# EAGLE library part NUCLEO-L452RE (library NUCLEO-L452RE)
No existe un outline (Layer Dimension) para esta librería. En su lugar se utilizó una referencia en tDocu. Al momento de diseñar la tarjeta, el Dimension debe ser dibujado según los requerimientos del usuario, o simplemente copiar los contenidos del tDocu en Dimensions.
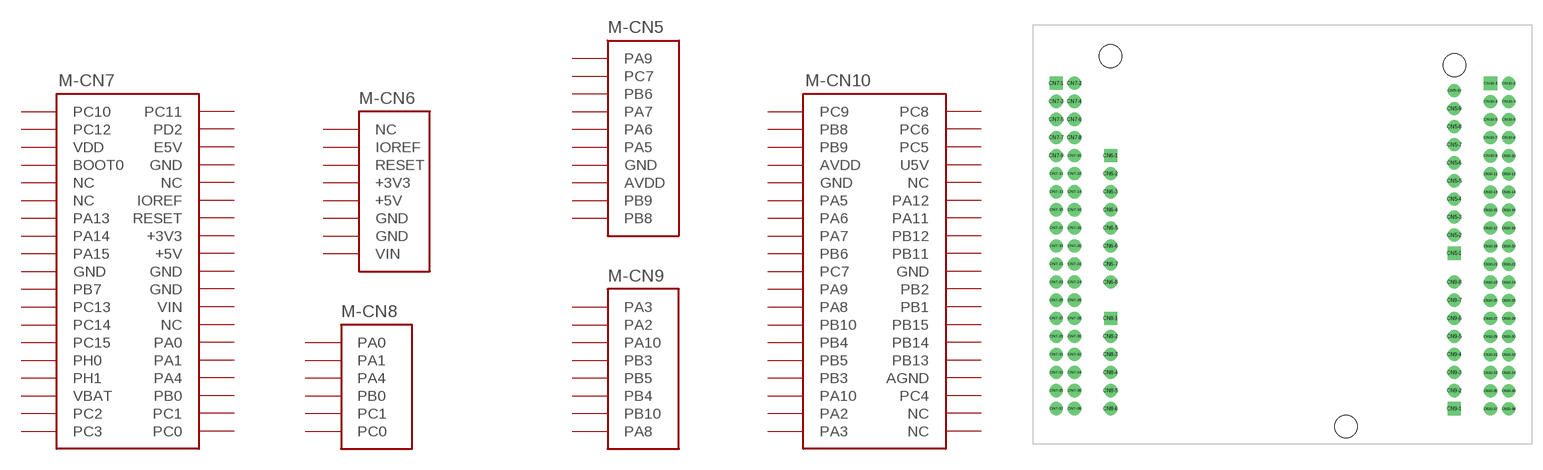
[diagram p0: symbol with the pads of NUCLEO-64; footprint NUCLEO-64]

Designator prefix M; gates -CN7=CN7 -CN6=CN6 -CN8=CN8 -CN9=CN9 -CN5=CN5 -CN10=CN10

## NUCLEO-L452RE (PARTNO: ESP-WROOM-32)  [NUCLEO-64]
CN5-1  -CN5:PA9
CN5-2  -CN5:PC7
CN5-3  -CN5:PB6
CN5-4  -CN5:PA7
CN5-5  -CN5:PA6
CN5-6  -CN5:PA5
CN5-7  -CN5:GND  pwr
CN5-8  -CN5:AVDD  pwr
CN5-9  -CN5:PB9
CN5-10  -CN5:PB8
CN6-1  -CN6:NC  nc
CN6-2  -CN6:IOREF  pwr
CN6-3  -CN6:RESET  in
CN6-4  -CN6:+3V3  pwr
CN6-5  -CN6:+5V  pwr
CN6-6  -CN6:GND  pwr
CN6-7  -CN6:GND  pwr
CN6-8  -CN6:VIN  pwr
CN7-1  -CN7:PC10
CN7-2  -CN7:PC11
CN7-3  -CN7:PC12
CN7-4  -CN7:PD2
CN7-5  -CN7:VDD  pwr
CN7-6  -CN7:E5V  pas
CN7-7  -CN7:BOOT0  in
CN7-8  -CN7:GND  pwr
CN7-9  -CN7:NC  nc
CN7-10  -CN7:NC  nc
CN7-11  -CN7:NC  nc
CN7-12  -CN7:IOREF  pas
CN7-13  -CN7:PA13
CN7-14  -CN7:RESET  in
CN7-15  -CN7:PA14
CN7-16  -CN7:+3V3  pwr
CN7-17  -CN7:PA15
CN7-18  -CN7:+5V  pwr
CN7-19  -CN7:GND  pwr
CN7-20  -CN7:GND  pwr
CN7-21  -CN7:PB7
CN7-22  -CN7:GND  pwr
CN7-23  -CN7:PC13
CN7-24  -CN7:VIN  pwr
CN7-25  -CN7:PC14
CN7-26  -CN7:NC  nc
CN7-27  -CN7:PC15
CN7-28  -CN7:PA0
CN7-29  -CN7:PH0
CN7-30  -CN7:PA1
CN7-31  -CN7:PH1
CN7-32  -CN7:PA4
CN7-33  -CN7:VBAT  pwr
CN7-34  -CN7:PB0
CN7-35  -CN7:PC2
CN7-36  -CN7:PC1
CN7-37  -CN7:PC3
CN7-38  -CN7:PC0
CN8-1  -CN8:PA0
CN8-2  -CN8:PA1
CN8-3  -CN8:PA4
CN8-4  -CN8:PB0
CN8-5  -CN8:PC1
CN8-6  -CN8:PC0
CN9-1  -CN9:PA3
CN9-2  -CN9:PA2
CN9-3  -CN9:PA10
CN9-4  -CN9:PB3
CN9-5  -CN9:PB5
CN9-6  -CN9:PB4
CN9-7  -CN9:PB10
CN9-8  -CN9:PA8
CN10-1  -CN10:PC9
CN10-2  -CN10:PC8
CN10-3  -CN10:PB8
CN10-4  -CN10:PC6
CN10-5  -CN10:PB9
CN10-6  -CN10:PC5
CN10-7  -CN10:AVDD  pwr
CN10-8  -CN10:U5V  pwr
CN10-9  -CN10:GND  pwr
CN10-10  -CN10:NC  nc
CN10-11  -CN10:PA5
CN10-12  -CN10:PA12
CN10-13  -CN10:PA6
CN10-14  -CN10:PA11
CN10-15  -CN10:PA7
CN10-16  -CN10:PB12
CN10-17  -CN10:PB6
CN10-18  -CN10:PB11
CN10-19  -CN10:PC7
CN10-20  -CN10:GND  pwr
CN10-21  -CN10:PA9
CN10-22  -CN10:PB2
CN10-23  -CN10:PA8
CN10-24  -CN10:PB1
CN10-25  -CN10:PB10
CN10-26  -CN10:PB15
CN10-27  -CN10:PB4
CN10-28  -CN10:PB14
CN10-29  -CN10:PB5
CN10-30  -CN10:PB13
CN10-31  -CN10:PB3
CN10-32  -CN10:AGND  pwr
CN10-33  -CN10:PA10
CN10-34  -CN10:PC4
CN10-35  -CN10:PA2
CN10-36  -CN10:NC  nc
CN10-37  -CN10:PA3
CN10-38  -CN10:NC  nc

## Footprint NUCLEO-64 (pad centres in mm)
drill 1.1 pad 1.85 square: CN5-1 59.13,24.884; CN6-1 10.87,38.6; CN7-1 3.25,48.76; CN8-1 10.87,15.74; CN9-1 59.13,3.04; CN10-1 64.21,48.735
drill 1.1 pad 1.85: CN5-2 59.13,27.424; CN5-3 59.13,29.964; CN5-4 59.13,32.504; CN5-5 59.13,35.044; CN5-6 59.13,37.584; CN5-7 59.13,40.124; CN5-8 59.13,42.664; CN5-9 59.13,45.204; CN5-10 59.13,47.744; CN6-2 10.87,36.06; CN6-3 10.87,33.52; CN6-4 10.87,30.98; CN6-5 10.87,28.44; CN6-6 10.87,25.9; CN6-7 10.87,23.36; CN6-8 10.87,20.82; CN7-2 5.79,48.76; CN7-3 3.25,46.22; CN7-4 5.79,46.22; CN7-5 3.25,43.68; CN7-6 5.79,43.68; CN7-7 3.25,41.14; CN7-8 5.79,41.14; CN7-9 3.25,38.6; CN7-10 5.79,38.6; CN7-11 3.25,36.06; CN7-12 5.79,36.06; CN7-13 3.25,33.52; CN7-14 5.79,33.52; CN7-15 3.25,30.98; CN7-16 5.79,30.98; CN7-17 3.25,28.44; CN7-18 5.79,28.44; CN7-19 3.25,25.9; CN7-20 5.79,25.9; CN7-21 3.25,23.36; CN7-22 5.79,23.36; CN7-23 3.25,20.82; CN7-24 5.79,20.82; CN7-25 3.25,18.28; CN7-26 5.79,18.28; CN7-27 3.25,15.74; CN7-28 5.79,15.74; CN7-29 3.25,13.2; CN7-30 5.79,13.2; CN7-31 3.25,10.66; CN7-32 5.79,10.66; CN7-33 3.25,8.12; CN7-34 5.79,8.12; CN7-35 3.25,5.58; CN7-36 5.79,5.58; CN7-37 3.25,3.04; CN7-38 5.79,3.04; CN8-2 10.87,13.2; CN8-3 10.87,10.66; CN8-4 10.87,8.12; CN8-5 10.87,5.58; CN8-6 10.87,3.04; CN9-2 59.13,5.58; CN9-3 59.13,8.12; CN9-4 59.13,10.66; CN9-5 59.13,13.2; CN9-6 59.13,15.74; CN9-7 59.13,18.28; CN9-8 59.13,20.82; CN10-2 66.75,48.735; CN10-3 64.21,46.195; CN10-4 66.75,46.195; CN10-5 64.21,43.655; CN10-6 66.75,43.655; CN10-7 64.21,41.115; CN10-8 66.75,41.115; CN10-9 64.21,38.575; CN10-10 66.75,38.575; CN10-11 64.21,36.035; CN10-12 66.75,36.035; CN10-13 64.21,33.495; CN10-14 66.75,33.495; CN10-15 64.21,30.955; CN10-16 66.75,30.955; CN10-17 64.21,28.415; CN10-18 66.75,28.415; CN10-19 64.21,25.875; CN10-20 66.75,25.875; CN10-21 64.21,23.335; CN10-22 66.75,23.335; CN10-23 64.21,20.795; CN10-24 66.75,20.795; CN10-25 64.21,18.255; CN10-26 66.75,18.255; CN10-27 64.21,15.715; CN10-28 66.75,15.715; CN10-29 64.21,13.175; CN10-30 66.75,13.175; CN10-31 64.21,10.635; CN10-32 66.75,10.635; CN10-33 64.21,8.095; CN10-34 66.75,8.095; CN10-35 64.21,5.555; CN10-36 66.75,5.555; CN10-37 64.21,3.015; CN10-38 66.75,3.015
hole 3.175 at 59.13,51.3
hole 3.175 at 10.87,52.57
hole 3.175 at 43.89,0.5